# Altium footprint library CAP.PCBLIB: 47 footprints (part 3 of 3)
Each footprint in its own frame and in the unit in brackets; x right, y up, seen from the top. Pads: shape width x height; smd on the part's side, far side on the other; paste and mask are expansions set on the pad; w line width, h text height; cw(c..) or ccw(c..) is an arc to the next point about the centre after c.
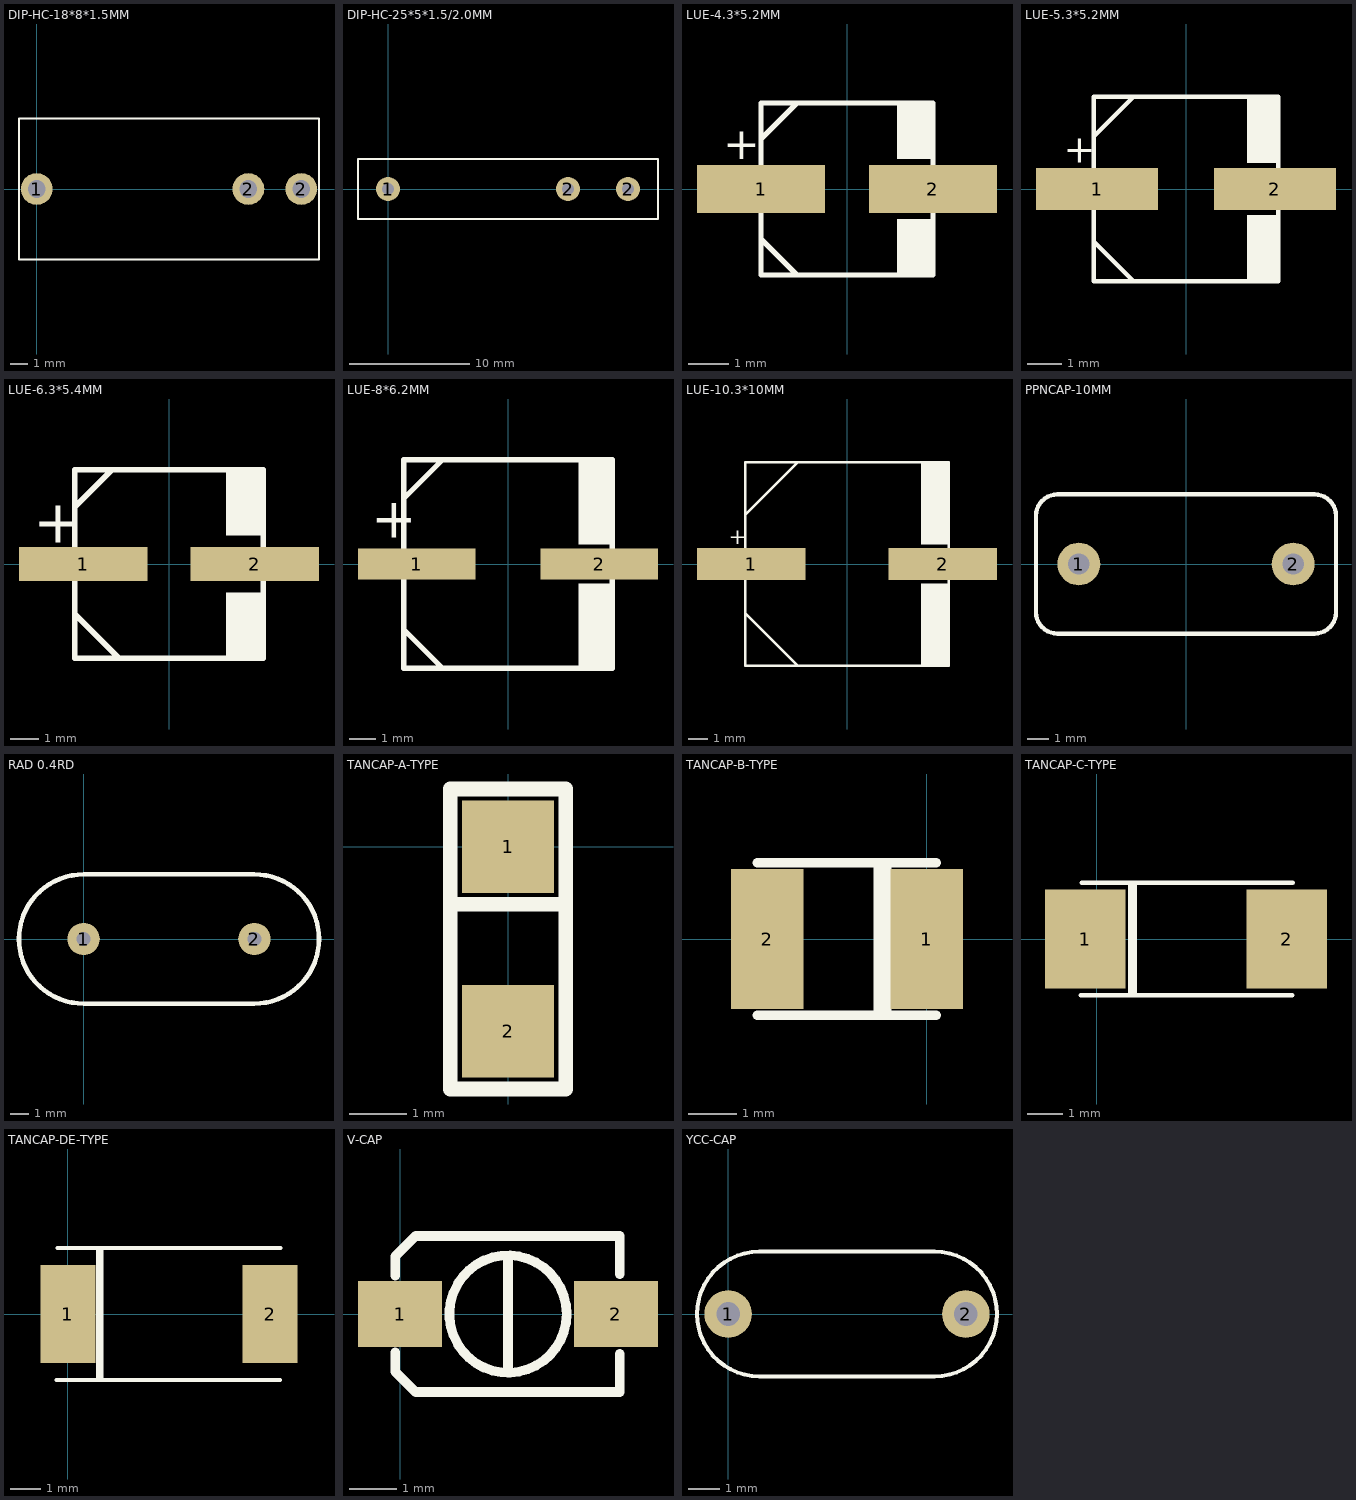
[diagram p2: the footprints below, top view; thin cyan lines are the x and y axes]

## DIP-HC-18*8*1.5MM [mm]
pads (3):
  round 1.8 hole 1: 1(0,0) 2(12,0) 2(15,0)
TopOverlay:
  lines w0.127: -1,-4 -1,4 16,4 16,-4 -1,-4

## DIP-HC-25*5*1.5/2.0MM [mm]
pads (3):
  round 2 hole 1: 1(0,0) 2(15,0) 2(20,0)
TopOverlay:
  lines w0.127: -2.5,-2.5 -2.5,2.5 22.5,2.5 22.5,-2.5 -2.5,-2.5

## LUE-4.3*5.2MM [mm]
pads (2):
  rect 3.2x1.2 smd: 1(-2.15,0) 2(2.15,0)
TopOverlay:
  rectangle: 1.25,-2.15 2.15,-0.75
  rectangle: 1.25,0.75 2.15,2.15
  lines w0.127: -2.15,-1.25 -1.25,-2.15 ; -2.15,1.25 -1.25,2.15 ; -2.15,-2.15 2.15,-2.15 2.15,2.15 -2.15,2.15 -2.15,-2.15
  text "+" at -3.1,0.75 h0.8

## LUE-5.3*5.2MM [mm]
pads (2):
  rect 3.5x1.2 smd: 1(-2.55,0) 2(2.55,0)
TopOverlay:
  rectangle: 1.75,0.75 2.65,2.65
  rectangle: 1.75,-2.65 2.65,-0.75
  lines w0.127: -2.65,-1.5 -1.5,-2.65 ; -2.65,1.5 -1.5,2.65 ; -2.65,-2.65 -2.65,2.65 2.65,2.65 2.65,-2.65 -2.65,-2.65
  text "+" at -3.5,0.75 h0.8

## LUE-6.3*5.4MM [mm]
pads (2):
  rect 4.5x1.2 smd: 1(-3,0) 2(3,0)
TopOverlay:
  rectangle: 2,1 3.3,3.3
  rectangle: 2,-3.3 3.3,-1
  lines w0.2: -3.3,-1.75 -1.75,-3.3 ; -3.3,2 -2,3.3 ; -3.3,-3.3 -3.3,3.3 3.3,3.3 3.3,-3.3 -3.3,-3.3
  text "+" at -4.75,0.75 h1.52

## LUE-8*6.2MM [mm]
pads (2):
  rect 4.5x1.2 smd: 1(-3.5,0) 2(3.5,0)
TopOverlay:
  rectangle: 2.7,0.75 4,4
  rectangle: 2.7,-4 4,-0.75
  lines w0.2: -4,-2.5 -2.5,-4 ; -4,2.5 -2.5,4 ; -4,-4 -4,4 4,4 4,-4 -4,-4
  text "+" at -5.25,1 h1.52

## LUE-10.3*10MM [mm]
pads (2):
  rect 5.5x1.6 smd: 1(-4.85,0) 2(4.85,0)
TopOverlay:
  rectangle: 3.75,-5.15 5.15,-1
  region: 5.15,5.15 3.75,5.15 3.75,1 5.15,1
  lines w0.127: -5.15,-2.5 -2.5,-5.15 ; -5.15,2.5 -2.5,5.15 ; -5.15,-5.15 5.15,-5.15 5.15,5.15 -5.15,5.15 -5.15,-5.15
  text "+" at -6,1 h0.8

## PPNCAP-10MM [mm]
pads (2):
  round 2 hole 1: 1(-5,0) 2(5,0)
TopOverlay:
  lines w0.2: -7,-2.25 ccw(c-6,-2.25) -6,-3.25 6,-3.25 ccw(c6,-2.25) 7,-2.25 7,2.25 ccw(c6,2.25) 6,3.25 -6,3.25 ccw(c-6,2.25) -7,2.25 -7,-2.25

## RAD 0.4RD [mil]
pads (2):
  round 70 hole 30: 1(0,0) 2(370,0)
TopOverlay:
  lines w10: 0,-140 cw(c0,0) 0,140 370,140 cw(c370,0) 370,-140 0,-140

## TANCAP-A-TYPE [mm]
pads (2):
  rect 1.6x1.6 smd: 1(0,0) 2(0,-3.2)
TopOverlay:
  lines w0.254: -1,-1 1,-1 ; -1,-4.2 -1,1 1,1 1,-4.2 -1,-4.2

## TANCAP-B-TYPE [mm]
pads (2):
  rect 1.5x2.9 smd: 1(0,0) 2(-3.3,0)
TopOverlay:
  lines w0.1: -0.963,-1.575 -0.963,1.575 ; -0.862,-1.524 -0.862,1.575 ; -0.785,-1.549 -0.785,1.575
  lines w0.127: -1.039,-1.575 -1.039,1.575
  lines w0.2: -3.503,-1.575 0.197,-1.575 ; -3.503,1.575 0.197,1.575

## TANCAP-C-TYPE [mm]
pads (2):
  rect 2.3x2.8 smd: 1(-0.325,0) 2(5.4,0)
TopOverlay:
  lines w0.127: -0.45,-1.6 5.55,-1.6 ; -0.425,1.6 5.575,1.6 ; 0.95,-1.6 0.95,1.6 ; 1.075,-1.6 1.075,1.6

## TANCAP-DE-TYPE [mm]
pads (2):
  rect 1.8x3.2 smd: 1(0,0) 2(6.6,0)
TopOverlay:
  lines w0.127: -0.375,-2.15 6.925,-2.15 ; -0.35,2.15 6.95,2.15 ; 0.975,-2.15 0.975,2.15 ; 1.1,-2.15 1.1,2.15

## V-CAP [mil]
pads (2):
  rect 70x55 smd: 1(0,0) 2(180,0)
TopOverlay:
  circle w8: c90,0 r48.88
  circle w10: c90,-48 r0
  lines w8: -4,-32 -4,-48 13,-65 183,-65 183,-33 ; -4,32 -4,48 13,65 183,65 183,33 ; 90,-48 90,47

## YCC-CAP [mil]
pads (2):
  round 60 hole 30: 1(0,0) 2(300,0)
TopOverlay:
  lines w5: 39.37,-78.74 cw(c39.37,0) 39.37,78.74 260.63,78.74 cw(c260.63,0) 260.63,-78.74 39.37,-78.74